# EAGLE library part 74LVC245APW,118 (library 74LVC245APW_118)
74LVC(H)245A - Octal bus transceiver; 3-state@en-us Source: Datasheet <https://assets.nexperia.com/documents/data-sheet/74LVC_LVCH245A.pdf>
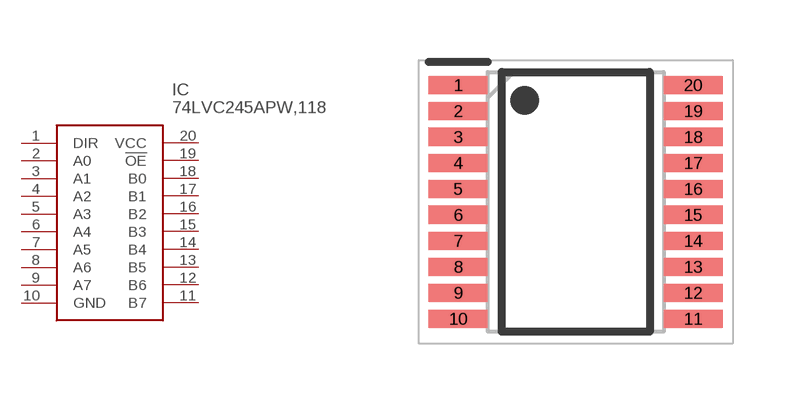
[diagram p0: symbol with the pads of SOP65P640X110-20N; footprint SOP65P640X110-20N]

Designator prefix IC

## 74LVC245APW,118 (DESCRIPTION: 74LVC(H)245A - Octal bus transceiver; 3-state@en-us; HEIGHT: 1.1mm; MANUFACTURER_NAME: Nexperia; MANUFACTURER_PART_NUMBER: 74LVC245APW,118; MOUSER_PART_NUMBER: 771-74LVC245APW-T; MOUSER_PRICE-STOCK: https://www.mouser.co.uk/ProductDetail/Nexperia/74LVC245APW118?qs=me8TqzrmIYXyG0GfZ8c8kg%3D%3D)  [SOP65P640X110-20N]
1  DIR
2  A0
3  A1
4  A2
5  A3
6  A4
7  A5
8  A6
9  A7
10  GND
11  B7
12  B6
13  B5
14  B4
15  B3
16  B2
17  B1
18  B0
19  !OE
20  VCC

## Footprint SOP65P640X110-20N (pad centres in mm)
SOT360-1
smd 1.475 x 0.45: 1 -2.938,2.925; 2 -2.938,2.275; 3 -2.938,1.625; 4 -2.938,0.975; 5 -2.938,0.325; 6 -2.938,-0.325; 7 -2.938,-0.975; 8 -2.938,-1.625; 9 -2.938,-2.275; 10 -2.938,-2.925; 11 2.938,-2.925; 12 2.938,-2.275; 13 2.938,-1.625; 14 2.938,-0.975; 15 2.938,-0.325; 16 2.938,0.325; 17 2.938,0.975; 18 2.938,1.625; 19 2.938,2.275; 20 2.938,2.925